# Altium footprint library con-weidmueller-sl35.PCBLIB: 184 footprints (part 3 of 12)
Each footprint in its own frame and in the unit in brackets; x right, y up, seen from the top. Pads: shape width x height; smd on the part's side, far side on the other; paste and mask are expansions set on the pad; w line width, h text height; cw(c..) or ccw(c..) is an arc to the next point about the centre after c.
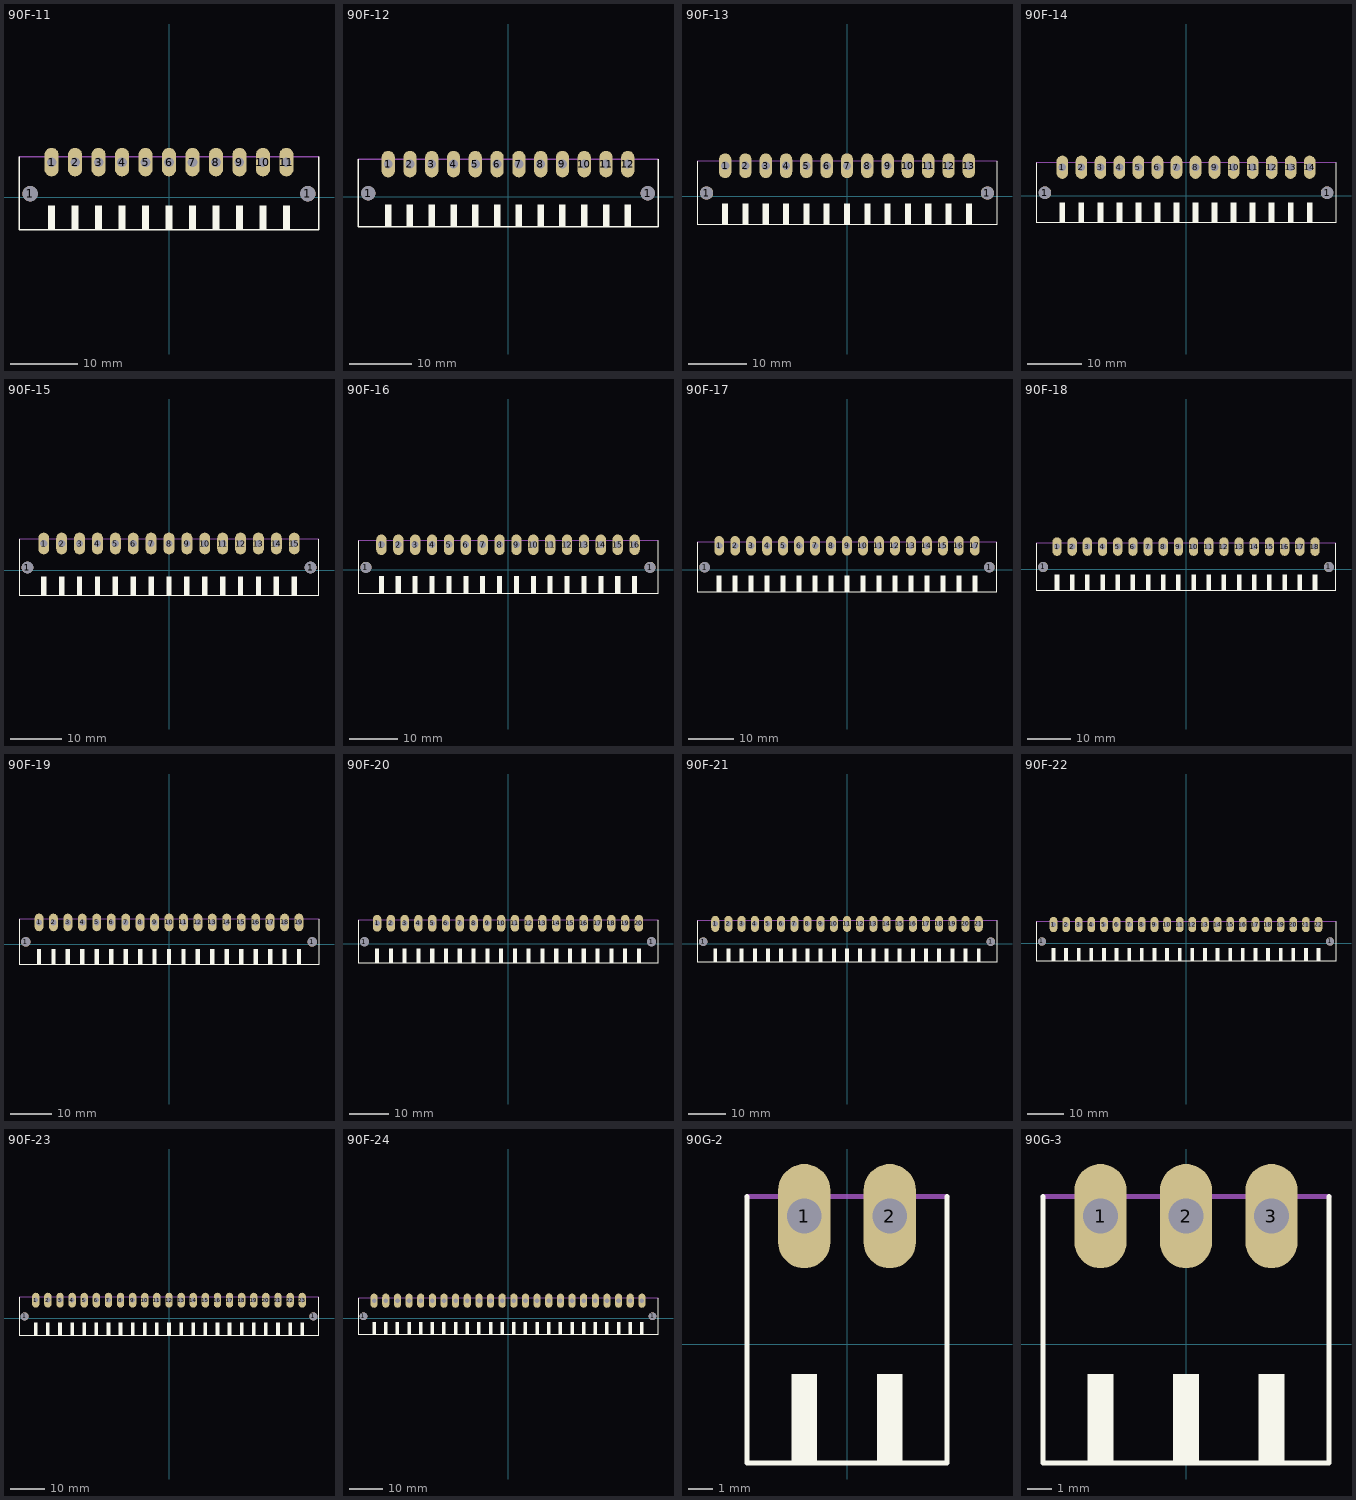
[diagram p2: the footprints below, top view; thin cyan lines are the x and y axes]

## 90F-11 [mil]
pads (13):
  round 90.55 hole 90.55: 1(-814.96,21.65) 1(814.96,21.65)
  oval 84x168 hole 56: 1(-688.98,206.69) 2(-551.18,206.69) 3(-413.39,206.69) 4(-275.59,206.69) 5(-137.8,206.69) 6(0,206.69) 7(137.8,206.69) 8(275.59,206.69) 9(413.39,206.69) 10(551.18,206.69) 11(688.98,206.69)
Top Overlay:
  rectangle: -709.65,-192.91 -668.31,-48.23
  rectangle: -571.85,-192.91 -530.51,-48.23
  rectangle: -434.06,-192.91 -392.72,-48.23
  rectangle: -296.26,-192.91 -254.92,-48.23
  rectangle: -158.46,-192.91 -117.13,-48.23
  rectangle: -20.67,-192.91 20.67,-48.23
  rectangle: 117.13,-192.91 158.46,-48.23
  rectangle: 254.92,-192.91 296.26,-48.23
  rectangle: 392.72,-192.91 434.06,-48.23
  rectangle: 530.51,-192.91 571.85,-48.23
  rectangle: 668.31,-192.91 709.65,-48.23
  lines w8: -879.92,238.19 -879.92,-190.94 879.92,-190.94 879.92,238.19
Mechanical 16:
  lines w8: -879.92,238.19 879.92,238.19

## 90F-12 [mil]
pads (14):
  round 90.55 hole 90.55: 1(-883.86,21.65) 1(883.86,21.65)
  oval 84x168 hole 56: 1(-757.87,206.69) 2(-620.08,206.69) 3(-482.28,206.69) 4(-344.49,206.69) 5(-206.69,206.69) 6(-68.9,206.69) 7(68.9,206.69) 8(206.69,206.69) 9(344.49,206.69) 10(482.28,206.69) 11(620.08,206.69) 12(757.87,206.69)
Top Overlay:
  rectangle: -778.54,-192.91 -737.2,-48.23
  rectangle: -640.75,-192.91 -599.41,-48.23
  rectangle: -502.95,-192.91 -461.61,-48.23
  rectangle: -365.16,-192.91 -323.82,-48.23
  rectangle: -227.36,-192.91 -186.02,-48.23
  rectangle: -89.57,-192.91 -48.23,-48.23
  rectangle: 48.23,-192.91 89.57,-48.23
  rectangle: 186.02,-192.91 227.36,-48.23
  rectangle: 323.82,-192.91 365.16,-48.23
  rectangle: 461.61,-192.91 502.95,-48.23
  rectangle: 599.41,-192.91 640.75,-48.23
  rectangle: 737.2,-192.91 778.54,-48.23
  lines w8: -948.82,238.19 -948.82,-190.94 948.82,-190.94 948.82,238.19
Mechanical 16:
  lines w8: -948.82,238.19 948.82,238.19

## 90F-13 [mil]
pads (15):
  round 90.55 hole 90.55: 1(-952.76,21.65) 1(952.76,21.65)
  oval 84x168 hole 56: 1(-826.77,206.69) 2(-688.98,206.69) 3(-551.18,206.69) 4(-413.39,206.69) 5(-275.59,206.69) 6(-137.8,206.69) 7(0,206.69) 8(137.8,206.69) 9(275.59,206.69) 10(413.39,206.69) 11(551.18,206.69) 12(688.98,206.69) 13(826.77,206.69)
Top Overlay:
  rectangle: -847.44,-192.91 -806.1,-48.23
  rectangle: -709.65,-192.91 -668.31,-48.23
  rectangle: -571.85,-192.91 -530.51,-48.23
  rectangle: -434.06,-192.91 -392.72,-48.23
  rectangle: -296.26,-192.91 -254.92,-48.23
  rectangle: -158.46,-192.91 -117.13,-48.23
  rectangle: -20.67,-192.91 20.67,-48.23
  rectangle: 117.13,-192.91 158.46,-48.23
  rectangle: 254.92,-192.91 296.26,-48.23
  rectangle: 392.72,-192.91 434.06,-48.23
  rectangle: 530.51,-192.91 571.85,-48.23
  rectangle: 668.31,-192.91 709.65,-48.23
  rectangle: 806.1,-192.91 847.44,-48.23
  lines w8: -1017.72,238.19 -1017.72,-190.94 1017.72,-190.94 1017.72,238.19
Mechanical 16:
  lines w8: -1017.72,238.19 1017.72,238.19

## 90F-14 [mil]
pads (16):
  round 90.55 hole 90.55: 1(-1021.65,21.65) 1(1021.65,21.65)
  oval 84x168 hole 56: 1(-895.67,206.69) 2(-757.87,206.69) 3(-620.08,206.69) 4(-482.28,206.69) 5(-344.49,206.69) 6(-206.69,206.69) 7(-68.9,206.69) 8(68.9,206.69) 9(206.69,206.69) 10(344.49,206.69) 11(482.28,206.69) 12(620.08,206.69) 13(757.87,206.69) 14(895.67,206.69)
Top Overlay:
  rectangle: -916.34,-192.91 -875,-48.23
  rectangle: -778.54,-192.91 -737.2,-48.23
  rectangle: -640.75,-192.91 -599.41,-48.23
  rectangle: -502.95,-192.91 -461.61,-48.23
  rectangle: -365.16,-192.91 -323.82,-48.23
  rectangle: -227.36,-192.91 -186.02,-48.23
  rectangle: -89.57,-192.91 -48.23,-48.23
  rectangle: 48.23,-192.91 89.57,-48.23
  rectangle: 186.02,-192.91 227.36,-48.23
  rectangle: 323.82,-192.91 365.16,-48.23
  rectangle: 461.61,-192.91 502.95,-48.23
  rectangle: 599.41,-192.91 640.75,-48.23
  rectangle: 737.2,-192.91 778.54,-48.23
  rectangle: 875,-192.91 916.34,-48.23
  lines w8: -1086.61,238.19 -1086.61,-190.94 1086.61,-190.94 1086.61,238.19
Mechanical 16:
  lines w8: -1086.61,238.19 1086.61,238.19

## 90F-15 [mil]
pads (17):
  round 90.55 hole 90.55: 1(-1090.55,21.65) 1(1090.55,21.65)
  oval 84x168 hole 56: 1(-964.57,206.69) 2(-826.77,206.69) 3(-688.98,206.69) 4(-551.18,206.69) 5(-413.39,206.69) 6(-275.59,206.69) 7(-137.8,206.69) 8(0,206.69) 9(137.8,206.69) 10(275.59,206.69) 11(413.39,206.69) 12(551.18,206.69) 13(688.98,206.69) 14(826.77,206.69) 15(964.57,206.69)
Top Overlay:
  rectangle: -985.24,-192.91 -943.9,-48.23
  rectangle: -847.44,-192.91 -806.1,-48.23
  rectangle: -709.65,-192.91 -668.31,-48.23
  rectangle: -571.85,-192.91 -530.51,-48.23
  rectangle: -434.06,-192.91 -392.72,-48.23
  rectangle: -296.26,-192.91 -254.92,-48.23
  rectangle: -158.46,-192.91 -117.13,-48.23
  rectangle: -20.67,-192.91 20.67,-48.23
  rectangle: 117.13,-192.91 158.46,-48.23
  rectangle: 254.92,-192.91 296.26,-48.23
  rectangle: 392.72,-192.91 434.06,-48.23
  rectangle: 530.51,-192.91 571.85,-48.23
  rectangle: 668.31,-192.91 709.65,-48.23
  rectangle: 806.1,-192.91 847.44,-48.23
  rectangle: 943.9,-192.91 985.24,-48.23
  lines w8: -1155.51,238.19 -1155.51,-190.94 1155.51,-190.94 1155.51,238.19
Mechanical 16:
  lines w8: -1155.51,238.19 1155.51,238.19

## 90F-16 [mil]
pads (18):
  round 90.55 hole 90.55: 1(-1159.45,21.65) 1(1159.45,21.65)
  oval 84x168 hole 56: 1(-1033.46,206.69) 2(-895.67,206.69) 3(-757.87,206.69) 4(-620.08,206.69) 5(-482.28,206.69) 6(-344.49,206.69) 7(-206.69,206.69) 8(-68.9,206.69) 9(68.9,206.69) 10(206.69,206.69) 11(344.49,206.69) 12(482.28,206.69) 13(620.08,206.69) 14(757.87,206.69) 15(895.67,206.69) 16(1033.46,206.69)
Top Overlay:
  rectangle: -1054.13,-192.91 -1012.8,-48.23
  rectangle: -916.34,-192.91 -875,-48.23
  rectangle: -778.54,-192.91 -737.2,-48.23
  rectangle: -640.75,-192.91 -599.41,-48.23
  rectangle: -502.95,-192.91 -461.61,-48.23
  rectangle: -365.16,-192.91 -323.82,-48.23
  rectangle: -227.36,-192.91 -186.02,-48.23
  rectangle: -89.57,-192.91 -48.23,-48.23
  rectangle: 48.23,-192.91 89.57,-48.23
  rectangle: 186.02,-192.91 227.36,-48.23
  rectangle: 323.82,-192.91 365.16,-48.23
  rectangle: 461.61,-192.91 502.95,-48.23
  rectangle: 599.41,-192.91 640.75,-48.23
  rectangle: 737.2,-192.91 778.54,-48.23
  rectangle: 875,-192.91 916.34,-48.23
  rectangle: 1012.8,-192.91 1054.13,-48.23
  lines w8: -1224.41,238.19 -1224.41,-190.94 1224.41,-190.94 1224.41,238.19
Mechanical 16:
  lines w8: -1224.41,238.19 1224.41,238.19

## 90F-17 [mil]
pads (19):
  round 90.55 hole 90.55: 1(-1228.35,21.65) 1(1228.35,21.65)
  oval 84x168 hole 56: 1(-1102.36,206.69) 2(-964.57,206.69) 3(-826.77,206.69) 4(-688.98,206.69) 5(-551.18,206.69) 6(-413.39,206.69) 7(-275.59,206.69) 8(-137.8,206.69) 9(0,206.69) 10(137.8,206.69) 11(275.59,206.69) 12(413.39,206.69) 13(551.18,206.69) 14(688.98,206.69) 15(826.77,206.69) 16(964.57,206.69) 17(1102.36,206.69)
Top Overlay:
  rectangle: -1123.03,-192.91 -1081.69,-48.23
  rectangle: -985.24,-192.91 -943.9,-48.23
  rectangle: -847.44,-192.91 -806.1,-48.23
  rectangle: -709.65,-192.91 -668.31,-48.23
  rectangle: -571.85,-192.91 -530.51,-48.23
  rectangle: -434.06,-192.91 -392.72,-48.23
  rectangle: -296.26,-192.91 -254.92,-48.23
  rectangle: -158.46,-192.91 -117.13,-48.23
  rectangle: -20.67,-192.91 20.67,-48.23
  rectangle: 117.13,-192.91 158.46,-48.23
  rectangle: 254.92,-192.91 296.26,-48.23
  rectangle: 392.72,-192.91 434.06,-48.23
  rectangle: 530.51,-192.91 571.85,-48.23
  rectangle: 668.31,-192.91 709.65,-48.23
  rectangle: 806.1,-192.91 847.44,-48.23
  rectangle: 943.9,-192.91 985.24,-48.23
  rectangle: 1081.69,-192.91 1123.03,-48.23
  lines w8: -1293.31,238.19 -1293.31,-190.94 1293.31,-190.94 1293.31,238.19
Mechanical 16:
  lines w8: -1293.31,238.19 1293.31,238.19

## 90F-18 [mil]
pads (20):
  round 90.55 hole 90.55: 1(-1297.24,21.65) 1(1297.24,21.65)
  oval 84x168 hole 56: 1(-1171.26,206.69) 2(-1033.46,206.69) 3(-895.67,206.69) 4(-757.87,206.69) 5(-620.08,206.69) 6(-482.28,206.69) 7(-344.49,206.69) 8(-206.69,206.69) 9(-68.9,206.69) 10(68.9,206.69) 11(206.69,206.69) 12(344.49,206.69) 13(482.28,206.69) 14(620.08,206.69) 15(757.87,206.69) 16(895.67,206.69) 17(1033.46,206.69) 18(1171.26,206.69)
Top Overlay:
  rectangle: -1191.93,-192.91 -1150.59,-48.23
  rectangle: -1054.13,-192.91 -1012.8,-48.23
  rectangle: -916.34,-192.91 -875,-48.23
  rectangle: -778.54,-192.91 -737.2,-48.23
  rectangle: -640.75,-192.91 -599.41,-48.23
  rectangle: -502.95,-192.91 -461.61,-48.23
  rectangle: -365.16,-192.91 -323.82,-48.23
  rectangle: -227.36,-192.91 -186.02,-48.23
  rectangle: -89.57,-192.91 -48.23,-48.23
  rectangle: 48.23,-192.91 89.57,-48.23
  rectangle: 186.02,-192.91 227.36,-48.23
  rectangle: 323.82,-192.91 365.16,-48.23
  rectangle: 461.61,-192.91 502.95,-48.23
  rectangle: 599.41,-192.91 640.75,-48.23
  rectangle: 737.2,-192.91 778.54,-48.23
  rectangle: 875,-192.91 916.34,-48.23
  rectangle: 1012.8,-192.91 1054.13,-48.23
  rectangle: 1150.59,-192.91 1191.93,-48.23
  lines w8: -1362.2,238.19 -1362.2,-190.94 1362.2,-190.94 1362.2,238.19
Mechanical 16:
  lines w8: -1362.2,238.19 1362.2,238.19

## 90F-19 [mil]
pads (21):
  round 90.55 hole 90.55: 1(-1366.14,21.65) 1(1366.14,21.65)
  oval 84x168 hole 56: 1(-1240.16,206.69) 2(-1102.36,206.69) 3(-964.57,206.69) 4(-826.77,206.69) 5(-688.98,206.69) 6(-551.18,206.69) 7(-413.39,206.69) 8(-275.59,206.69) 9(-137.8,206.69) 10(0,206.69) 11(137.8,206.69) 12(275.59,206.69) 13(413.39,206.69) 14(551.18,206.69) 15(688.98,206.69) 16(826.77,206.69) 17(964.57,206.69) 18(1102.36,206.69) 19(1240.16,206.69)
Top Overlay:
  rectangle: -1260.83,-192.91 -1219.49,-48.23
  rectangle: -1123.03,-192.91 -1081.69,-48.23
  rectangle: -985.24,-192.91 -943.9,-48.23
  rectangle: -847.44,-192.91 -806.1,-48.23
  rectangle: -709.65,-192.91 -668.31,-48.23
  rectangle: -571.85,-192.91 -530.51,-48.23
  rectangle: -434.06,-192.91 -392.72,-48.23
  rectangle: -296.26,-192.91 -254.92,-48.23
  rectangle: -158.46,-192.91 -117.13,-48.23
  rectangle: -20.67,-192.91 20.67,-48.23
  rectangle: 117.13,-192.91 158.46,-48.23
  rectangle: 254.92,-192.91 296.26,-48.23
  rectangle: 392.72,-192.91 434.06,-48.23
  rectangle: 530.51,-192.91 571.85,-48.23
  rectangle: 668.31,-192.91 709.65,-48.23
  rectangle: 806.1,-192.91 847.44,-48.23
  rectangle: 943.9,-192.91 985.24,-48.23
  rectangle: 1081.69,-192.91 1123.03,-48.23
  rectangle: 1219.49,-192.91 1260.83,-48.23
  lines w8: -1431.1,238.19 -1431.1,-190.94 1431.1,-190.94 1431.1,238.19
Mechanical 16:
  lines w8: -1431.1,238.19 1431.1,238.19

## 90F-20 [mil]
pads (22):
  round 90.55 hole 90.55: 1(-1435.04,21.65) 1(1435.04,21.65)
  oval 84x168 hole 56: 1(-1309.06,206.69) 2(-1171.26,206.69) 3(-1033.46,206.69) 4(-895.67,206.69) 5(-757.87,206.69) 6(-620.08,206.69) 7(-482.28,206.69) 8(-344.49,206.69) 9(-206.69,206.69) 10(-68.9,206.69) 11(68.9,206.69) 12(206.69,206.69) 13(344.49,206.69) 14(482.28,206.69) 15(620.08,206.69) 16(757.87,206.69) 17(895.67,206.69) 18(1033.46,206.69) 19(1171.26,206.69) 20(1309.06,206.69)
Top Overlay:
  rectangle: -1329.72,-192.91 -1288.39,-48.23
  rectangle: -1191.93,-192.91 -1150.59,-48.23
  rectangle: -1054.13,-192.91 -1012.8,-48.23
  rectangle: -916.34,-192.91 -875,-48.23
  rectangle: -778.54,-192.91 -737.2,-48.23
  rectangle: -640.75,-192.91 -599.41,-48.23
  rectangle: -502.95,-192.91 -461.61,-48.23
  rectangle: -365.16,-192.91 -323.82,-48.23
  rectangle: -227.36,-192.91 -186.02,-48.23
  rectangle: -89.57,-192.91 -48.23,-48.23
  rectangle: 48.23,-192.91 89.57,-48.23
  rectangle: 186.02,-192.91 227.36,-48.23
  rectangle: 323.82,-192.91 365.16,-48.23
  rectangle: 461.61,-192.91 502.95,-48.23
  rectangle: 599.41,-192.91 640.75,-48.23
  rectangle: 737.2,-192.91 778.54,-48.23
  rectangle: 875,-192.91 916.34,-48.23
  rectangle: 1012.8,-192.91 1054.13,-48.23
  rectangle: 1150.59,-192.91 1191.93,-48.23
  rectangle: 1288.39,-192.91 1329.72,-48.23
  lines w8: -1500,238.19 -1500,-190.94 1500,-190.94 1500,238.19
Mechanical 16:
  lines w8: -1500,238.19 1500,238.19

## 90F-21 [mil]
pads (23):
  round 90.55 hole 90.55: 1(-1503.94,21.65) 1(1503.94,21.65)
  oval 84x168 hole 56: 1(-1377.95,206.69) 2(-1240.16,206.69) 3(-1102.36,206.69) 4(-964.57,206.69) 5(-826.77,206.69) 6(-688.98,206.69) 7(-551.18,206.69) 8(-413.39,206.69) 9(-275.59,206.69) 10(-137.8,206.69) 11(0,206.69) 12(137.8,206.69) 13(275.59,206.69) 14(413.39,206.69) 15(551.18,206.69) 16(688.98,206.69) 17(826.77,206.69) 18(964.57,206.69) 19(1102.36,206.69) 20(1240.16,206.69) 21(1377.95,206.69)
Top Overlay:
  rectangle: -1398.62,-192.91 -1357.28,-48.23
  rectangle: -1260.83,-192.91 -1219.49,-48.23
  rectangle: -1123.03,-192.91 -1081.69,-48.23
  rectangle: -985.24,-192.91 -943.9,-48.23
  rectangle: -847.44,-192.91 -806.1,-48.23
  rectangle: -709.65,-192.91 -668.31,-48.23
  rectangle: -571.85,-192.91 -530.51,-48.23
  rectangle: -434.06,-192.91 -392.72,-48.23
  rectangle: -296.26,-192.91 -254.92,-48.23
  rectangle: -158.46,-192.91 -117.13,-48.23
  rectangle: -20.67,-192.91 20.67,-48.23
  rectangle: 117.13,-192.91 158.46,-48.23
  rectangle: 254.92,-192.91 296.26,-48.23
  rectangle: 392.72,-192.91 434.06,-48.23
  rectangle: 530.51,-192.91 571.85,-48.23
  rectangle: 668.31,-192.91 709.65,-48.23
  rectangle: 806.1,-192.91 847.44,-48.23
  rectangle: 943.9,-192.91 985.24,-48.23
  rectangle: 1081.69,-192.91 1123.03,-48.23
  rectangle: 1219.49,-192.91 1260.83,-48.23
  rectangle: 1357.28,-192.91 1398.62,-48.23
  lines w8: -1568.9,238.19 -1568.9,-190.94 1568.9,-190.94 1568.9,238.19
Mechanical 16:
  lines w8: -1568.9,238.19 1568.9,238.19

## 90F-22 [mil]
pads (24):
  round 90.55 hole 90.55: 1(-1572.83,21.65) 1(1572.83,21.65)
  oval 84x168 hole 56: 1(-1446.85,206.69) 2(-1309.06,206.69) 3(-1171.26,206.69) 4(-1033.46,206.69) 5(-895.67,206.69) 6(-757.87,206.69) 7(-620.08,206.69) 8(-482.28,206.69) 9(-344.49,206.69) 10(-206.69,206.69) 11(-68.9,206.69) 12(68.9,206.69) 13(206.69,206.69) 14(344.49,206.69) 15(482.28,206.69) 16(620.08,206.69) 17(757.87,206.69) 18(895.67,206.69) 19(1033.46,206.69) 20(1171.26,206.69) 21(1309.06,206.69) 22(1446.85,206.69)
Top Overlay:
  rectangle: -1467.52,-192.91 -1426.18,-48.23
  rectangle: -1329.72,-192.91 -1288.39,-48.23
  rectangle: -1191.93,-192.91 -1150.59,-48.23
  rectangle: -1054.13,-192.91 -1012.8,-48.23
  rectangle: -916.34,-192.91 -875,-48.23
  rectangle: -778.54,-192.91 -737.2,-48.23
  rectangle: -640.75,-192.91 -599.41,-48.23
  rectangle: -502.95,-192.91 -461.61,-48.23
  rectangle: -365.16,-192.91 -323.82,-48.23
  rectangle: -227.36,-192.91 -186.02,-48.23
  rectangle: -89.57,-192.91 -48.23,-48.23
  rectangle: 48.23,-192.91 89.57,-48.23
  rectangle: 186.02,-192.91 227.36,-48.23
  rectangle: 323.82,-192.91 365.16,-48.23
  rectangle: 461.61,-192.91 502.95,-48.23
  rectangle: 599.41,-192.91 640.75,-48.23
  rectangle: 737.2,-192.91 778.54,-48.23
  rectangle: 875,-192.91 916.34,-48.23
  rectangle: 1012.8,-192.91 1054.13,-48.23
  rectangle: 1150.59,-192.91 1191.93,-48.23
  rectangle: 1288.39,-192.91 1329.72,-48.23
  rectangle: 1426.18,-192.91 1467.52,-48.23
  lines w8: -1637.8,238.19 -1637.8,-190.94 1637.8,-190.94 1637.8,238.19
Mechanical 16:
  lines w8: -1637.8,238.19 1637.8,238.19

## 90F-23 [mil]
pads (25):
  round 90.55 hole 90.55: 1(-1641.73,21.65) 1(1641.73,21.65)
  oval 84x168 hole 56: 1(-1515.75,206.69) 2(-1377.95,206.69) 3(-1240.16,206.69) 4(-1102.36,206.69) 5(-964.57,206.69) 6(-826.77,206.69) 7(-688.98,206.69) 8(-551.18,206.69) 9(-413.39,206.69) 10(-275.59,206.69) 11(-137.8,206.69) 12(0,206.69) 13(137.8,206.69) 14(275.59,206.69) 15(413.39,206.69) 16(551.18,206.69) 17(688.98,206.69) 18(826.77,206.69) 19(964.57,206.69) 20(1102.36,206.69) 21(1240.16,206.69) 22(1377.95,206.69) 23(1515.75,206.69)
Top Overlay:
  rectangle: -1536.42,-192.91 -1495.08,-48.23
  rectangle: -1398.62,-192.91 -1357.28,-48.23
  rectangle: -1260.83,-192.91 -1219.49,-48.23
  rectangle: -1123.03,-192.91 -1081.69,-48.23
  rectangle: -985.24,-192.91 -943.9,-48.23
  rectangle: -847.44,-192.91 -806.1,-48.23
  rectangle: -709.65,-192.91 -668.31,-48.23
  rectangle: -571.85,-192.91 -530.51,-48.23
  rectangle: -434.06,-192.91 -392.72,-48.23
  rectangle: -296.26,-192.91 -254.92,-48.23
  rectangle: -158.46,-192.91 -117.13,-48.23
  rectangle: -20.67,-192.91 20.67,-48.23
  rectangle: 117.13,-192.91 158.46,-48.23
  rectangle: 254.92,-192.91 296.26,-48.23
  rectangle: 392.72,-192.91 434.06,-48.23
  rectangle: 530.51,-192.91 571.85,-48.23
  rectangle: 668.31,-192.91 709.65,-48.23
  rectangle: 806.1,-192.91 847.44,-48.23
  rectangle: 943.9,-192.91 985.24,-48.23
  rectangle: 1081.69,-192.91 1123.03,-48.23
  rectangle: 1219.49,-192.91 1260.83,-48.23
  rectangle: 1357.28,-192.91 1398.62,-48.23
  rectangle: 1495.08,-192.91 1536.42,-48.23
  lines w8: -1706.69,238.19 -1706.69,-190.94 1706.69,-190.94 1706.69,238.19
Mechanical 16:
  lines w8: -1706.69,238.19 1706.69,238.19

## 90F-24 [mil]
pads (26):
  round 90.55 hole 90.55: 1(-1710.63,21.65) 1(1710.63,21.65)
  oval 84x168 hole 56: 1(-1584.65,206.69) 2(-1446.85,206.69) 3(-1309.06,206.69) 4(-1171.26,206.69) 5(-1033.46,206.69) 6(-895.67,206.69) 7(-757.87,206.69) 8(-620.08,206.69) 9(-482.28,206.69) 10(-344.49,206.69) 11(-206.69,206.69) 12(-68.9,206.69) 13(68.9,206.69) 14(206.69,206.69) 15(344.49,206.69) 16(482.28,206.69) 17(620.08,206.69) 18(757.87,206.69) 19(895.67,206.69) 20(1033.46,206.69) 21(1171.26,206.69) 22(1309.06,206.69) 23(1446.85,206.69) 24(1584.65,206.69)
Top Overlay:
  rectangle: -1605.31,-192.91 -1563.98,-48.23
  rectangle: -1467.52,-192.91 -1426.18,-48.23
  rectangle: -1329.72,-192.91 -1288.39,-48.23
  rectangle: -1191.93,-192.91 -1150.59,-48.23
  rectangle: -1054.13,-192.91 -1012.8,-48.23
  rectangle: -916.34,-192.91 -875,-48.23
  rectangle: -778.54,-192.91 -737.2,-48.23
  rectangle: -640.75,-192.91 -599.41,-48.23
  rectangle: -502.95,-192.91 -461.61,-48.23
  rectangle: -365.16,-192.91 -323.82,-48.23
  rectangle: -227.36,-192.91 -186.02,-48.23
  rectangle: -89.57,-192.91 -48.23,-48.23
  rectangle: 48.23,-192.91 89.57,-48.23
  rectangle: 186.02,-192.91 227.36,-48.23
  rectangle: 323.82,-192.91 365.16,-48.23
  rectangle: 461.61,-192.91 502.95,-48.23
  rectangle: 599.41,-192.91 640.75,-48.23
  rectangle: 737.2,-192.91 778.54,-48.23
  rectangle: 875,-192.91 916.34,-48.23
  rectangle: 1012.8,-192.91 1054.13,-48.23
  rectangle: 1150.59,-192.91 1191.93,-48.23
  rectangle: 1288.39,-192.91 1329.72,-48.23
  rectangle: 1426.18,-192.91 1467.52,-48.23
  rectangle: 1563.98,-192.91 1605.31,-48.23
  lines w8: -1775.59,238.19 -1775.59,-190.94 1775.59,-190.94 1775.59,238.19
Mechanical 16:
  lines w8: -1775.59,238.19 1775.59,238.19

## 90G-2 [mil]
pads (2):
  oval 84x168 hole 56: 1(-68.9,206.69) 2(68.9,206.69)
Top Overlay:
  rectangle: -89.57,-192.91 -48.23,-48.23
  rectangle: 48.23,-192.91 89.57,-48.23
  lines w8: -161.42,238.19 -161.42,-190.94 161.42,-190.94 161.42,238.19
Mechanical 16:
  lines w8: -161.42,238.19 161.42,238.19

## 90G-3 [mil]
pads (3):
  oval 84x168 hole 56: 1(-137.8,206.69) 2(0,206.69) 3(137.8,206.69)
Top Overlay:
  rectangle: -158.46,-192.91 -117.13,-48.23
  rectangle: -20.67,-192.91 20.67,-48.23
  rectangle: 117.13,-192.91 158.46,-48.23
  lines w8: -230.32,238.19 -230.32,-190.94 230.32,-190.94 230.32,238.19
Mechanical 16:
  lines w8: -230.32,238.19 230.32,238.19